# Altium schematic symbol library 2-1825027-0.SchLib: 1 symbol
Pins are listed as number, name and electrical type; pins without a type are passive.

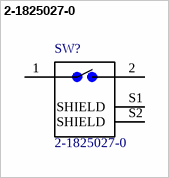
[diagram p0: symbol 2-1825027-0]

## 2-1825027-0
designator SW?
SWITCH TACTILE SPST-NO 0.05A 24V; MF: TE Connectivity; Link: http://www.te.com/usa-en/product-2-1825027-0.html; EU_RoHS_Compliance: Compliant; Availability: Good; Package: None; MP: 2-1825027-0; Price: 0.12 USD; Value: *
footprint TE_2-1825027-0_2-1825027-0(Primary)
pins: 1, 2, S1 SHIELD, S2 SHIELD